# EAGLE library part LM394 (library transistor-npn)
LM394 Dual Transistor
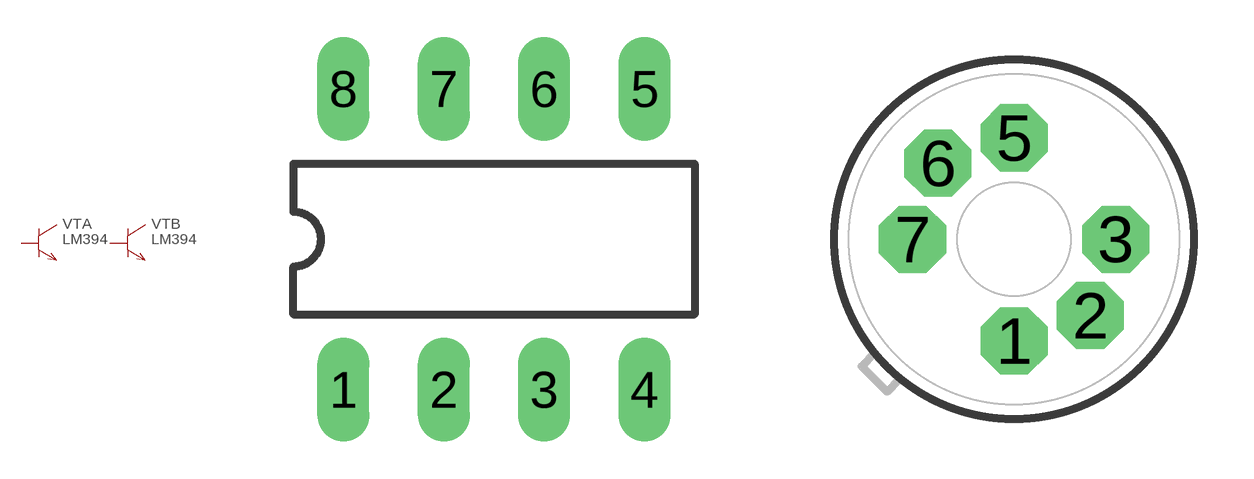
[diagram p2: symbol with the pads of DIL08; footprints DIL08, HO6C]

Designator prefix VT; gates A=NPN B=NPN

## LM394N  [DIL08]
1  A:C  pas
2  A:B  pas
3  A:E  pas
6  B:E  pas
7  B:B  pas
8  B:C  pas

## LM394H  [HO6C]
1  A:C  pas
2  A:B  pas
3  A:E  pas
5  B:E  pas
6  B:B  pas
7  B:C  pas

## Footprint DIL08 (pad centres in mm)
Dual In Line Package
drill 0.813 long: 1 -3.81,-3.81; 2 -1.27,-3.81; 3 1.27,-3.81; 4 3.81,-3.81; 5 3.81,3.81; 6 1.27,3.81; 7 -1.27,3.81; 8 -3.81,3.81

## Footprint HO6C (pad centres in mm)
TOH6C
drill 0.813 pad 1.676 octagon: 1 0,-2.54; 2 1.905,-1.905; 3 2.54,0; 5 0,2.54; 6 -1.905,1.905; 7 -2.54,0